# EAGLE library part MA06-1 (library 000001)
PIN HEADER
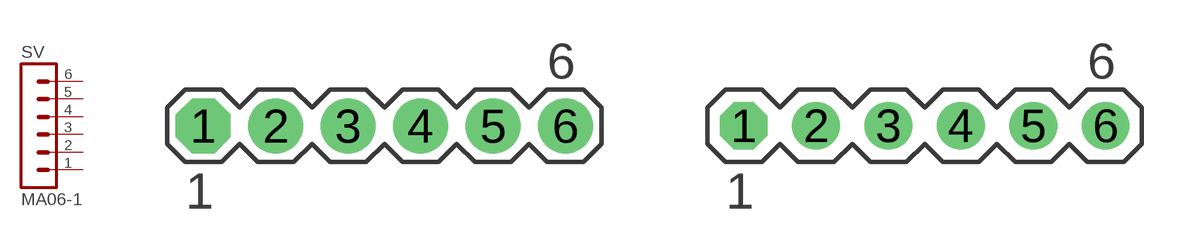
[diagram p3: symbol with the pads of MA06-1; footprints MA06-1, MA06-1_PCB]

Designator prefix SV

## MA06-1  [MA06-1]
1  1  pas
2  2  pas
3  3  pas
4  4  pas
5  5  pas
6  6  pas

## MA06-1PCB  [MA06-1_PCB]
Pads as for MA06-1

## Footprint MA06-1 (pad centres in mm)
PIN HEADER
drill 0.8 pad 1.93 octagon: 1 -6.35,0
drill 0.8 pad 1.93 round: 2 -3.81,0; 3 -1.27,0; 4 1.27,0; 5 3.81,0; 6 6.35,0

## Footprint MA06-1_PCB (pad centres in mm)
drill 1 pad 1.676 octagon: 1 -6.35,0
drill 1 pad 1.676 round: 2 -3.81,0; 3 -1.27,0; 4 1.27,0; 5 3.81,0; 6 6.35,0